# Altium schematic symbol library MCP7940N.Schlib: 1 symbol
Pins are listed as number, name and electrical type; pins without a type are passive.

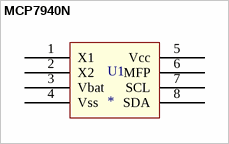
[diagram p0: symbol MCP7940N]

## MCP7940N
designator U1
I2C Real-Time Clock/Calendar w/ Battery Switchover
pins: 1 X1, 2 X2, 3 Vbat (power), 4 Vss (power), 5 Vcc (power), 6 MFP, 7 SCL (oc), 8 SDA (oc)